# Altium footprint library Quectel.PcbLib: 2 footprints
Each footprint in its own frame and in the unit in brackets; x right, y up, seen from the top. Pads: shape width x height; smd on the part's side, far side on the other; paste and mask are expansions set on the pad; w line width, h text height; cw(c..) or ccw(c..) is an arc to the next point about the centre after c.
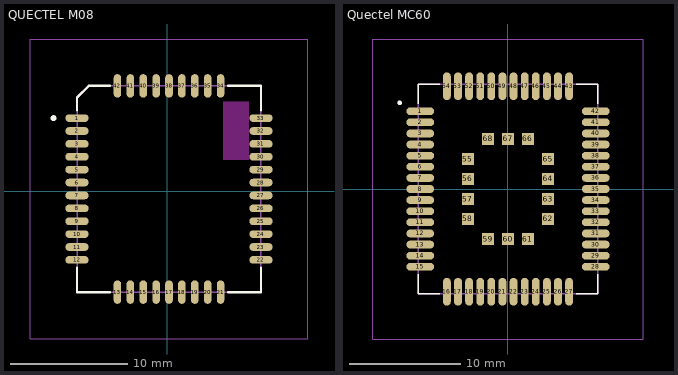
[diagram p0: the footprints below, top view; thin cyan lines are the x and y axes]

## QUECTEL M08 [mm]
pads (42):
  oval 2x0.65 smd paste-2: 1(-7.68,6.26) 2(-7.68,5.16) 3(-7.68,4.06) 4(-7.68,2.96) 5(-7.68,1.86) 6(-7.68,0.76) 7(-7.68,-0.34) 8(-7.68,-1.44) 9(-7.68,-2.54) 10(-7.68,-3.64) 11(-7.68,-4.74) 12(-7.68,-5.84) 22(8.02,-5.84) 23(8.02,-4.74) 24(8.02,-3.64) 25(8.02,-2.54) 26(8.02,-1.44) 27(8.02,-0.34) 28(8.02,0.76) 29(8.02,1.86) 30(8.02,2.96) 31(8.02,4.06) 32(8.02,5.16) 33(8.02,6.26)
  oval 0.65x2 smd paste-2: 13(-4.23,-8.59) 14(-3.13,-8.59) 15(-2.03,-8.59) 16(-0.93,-8.59) 17(0.17,-8.59) 18(1.27,-8.59) 19(2.37,-8.59) 20(3.47,-8.59) 21(4.57,-8.59) 34(4.57,9.01) 35(3.47,9.01) 36(2.37,9.01) 37(1.27,9.01) 38(0.17,9.01) 39(-0.93,9.01) 40(-2.03,9.01) 41(-3.13,9.01) 42(-4.23,9.01)
Top Overlay:
  circle w0.3: c-9.68,6.26 r0.1
  lines w0.2: -7.68,-6.485 -7.68,-8.59 -4.875,-8.59 ; -7.68,6.905 -7.68,8.01 -6.68,9.01 -4.875,9.01 ; 5.215,-8.59 8.02,-8.59 8.02,-6.485 ; 5.215,9.01 8.02,9.01 8.02,6.905
Keep-Out Layer:
  region: 6.97,2.69 4.82,2.69 4.82,7.64 6.97,7.64
Mechanical 13:
  circle w0.2: c-9.68,6.26 r0.1
  lines w0.127: -7.68,-8.59 -7.68,8.01 -6.68,9.01 8.02,9.01 8.02,-8.59 -7.68,-8.59
Mechanical 15:
  lines w0.05: -11.68,-12.59 -11.68,13.01 12.02,13.01 12.02,-12.59 -11.68,-12.59
3D body "step_temp.STEP": height 2.6, standoff 0, extent -7.68,-8.59 8.02,9.01

## Quectel MC60 [mm]
pads (68):
  oval 2.5x0.7 smd paste-2: 1(-7.875,7) 2(-7.875,6) 3(-7.875,5) 4(-7.875,4) 5(-7.875,3) 6(-7.875,2) 7(-7.875,1) 8(-7.875,0) 9(-7.875,-1) 10(-7.875,-2) 11(-7.875,-3) 12(-7.875,-4) 13(-7.875,-5) 14(-7.875,-6) 15(-7.875,-7) 28(7.925,-7) 29(7.925,-6) 30(7.925,-5) 31(7.925,-4) 32(7.925,-3) 33(7.925,-2) 34(7.925,-1) 35(7.925,0) 36(7.925,1) 37(7.925,2) 38(7.925,3) 39(7.925,4) 40(7.925,5) 41(7.925,6) 42(7.925,7)
  oval 0.7x2.5 smd paste-2: 16(-5.475,-9.25) 17(-4.475,-9.25) 18(-3.475,-9.25) 19(-2.475,-9.25) 20(-1.475,-9.25) 21(-0.475,-9.25) 22(0.525,-9.25) 23(1.525,-9.25) 24(2.525,-9.25) 25(3.525,-9.25) 26(4.525,-9.25) 27(5.525,-9.25) 43(5.525,9.25) 44(4.525,9.25) 45(3.525,9.25) 46(2.525,9.25) 47(1.525,9.25) 48(0.525,9.25) 49(-0.475,9.25) 50(-1.475,9.25) 51(-2.475,9.25) 52(-3.475,9.25) 53(-4.475,9.25) 54(-5.475,9.25)
  rect 1.1x1.1 smd paste-0.09: 55(-3.575,2.7) 56(-3.575,0.9) 57(-3.575,-0.9) 58(-3.575,-2.7) 59(-1.775,-4.5) 60(0.025,-4.5) 61(1.825,-4.5) 62(3.625,-2.7) 63(3.625,-0.9) 64(3.625,0.9) 65(3.625,2.7) 66(1.825,4.5) 67(0.025,4.5) 68(-1.775,4.5)
Top Overlay:
  circle w0.2: c-9.725,7.75 r0.1
  lines w0.127: -8.05,-7.664 -8.05,-9.425 -6.138,-9.425 ; -8.05,7.664 -8.05,9.425 -6.138,9.425 ; 6.189,-9.425 8.1,-9.425 8.1,-7.664 ; 6.189,9.425 8.1,9.425 8.1,7.664
Top Paste:
  drawing of 54 lines, arcs and shapes, not listed
Mechanical 13:
  circle w0.2: c-9.725,7.75 r0.1
  lines w0.127: -8.05,-9.425 8.1,-9.425 8.1,9.425 -8.05,9.425 -8.05,-9.425
Mechanical 15:
  lines w0.05: -12.125,-13.5 12.175,-13.5 12.175,13.5 -12.125,13.5 -12.125,-13.5
3D body "MC60--3DModel-STEP-269445.STEP": height 2.2, standoff 0.05, extent -7.976,-9.429 8.024,9.271